# EAGLE library part 418317170903 (library EAGLE-TACT_SWITCHES-rev17c)
WS-PT 2.54 mm piano type compact THT Dip Switch with flat actuator, 3 Pole
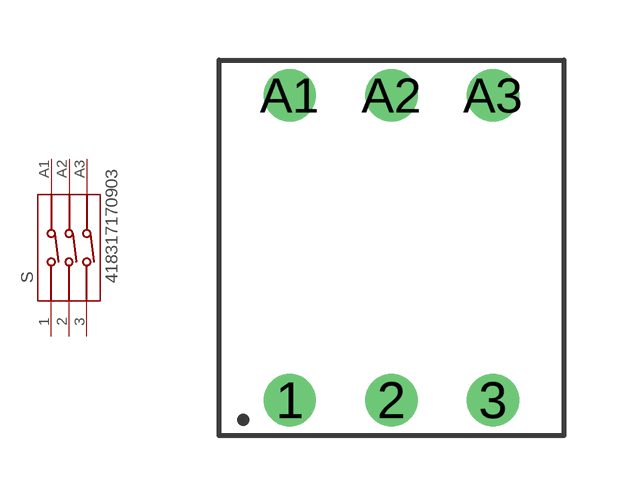
[diagram p63: symbol with the pads of 418317170903; footprint 418317170903]

Designator prefix S

## 418317170903  [418317170903]
1  1  pas
2  2  pas
3  3  pas
A1  A1  pas
A2  A2  pas
A3  A3  pas

## Footprint 418317170903 (pad centres in mm)
WS-PT 2.54 mm piano type compact THT Dip Switch with flat actuator, 3 Pole
drill 0.8: 1 -2.54,-3.81; 2 0,-3.81; 3 2.54,-3.81; A1 -2.54,3.81; A2 0,3.81; A3 2.54,3.81